# Altium integrated library STMicroelectronics.IntLib: 6 symbols
Pins are listed as number, name and electrical type; pins without a type are passive.

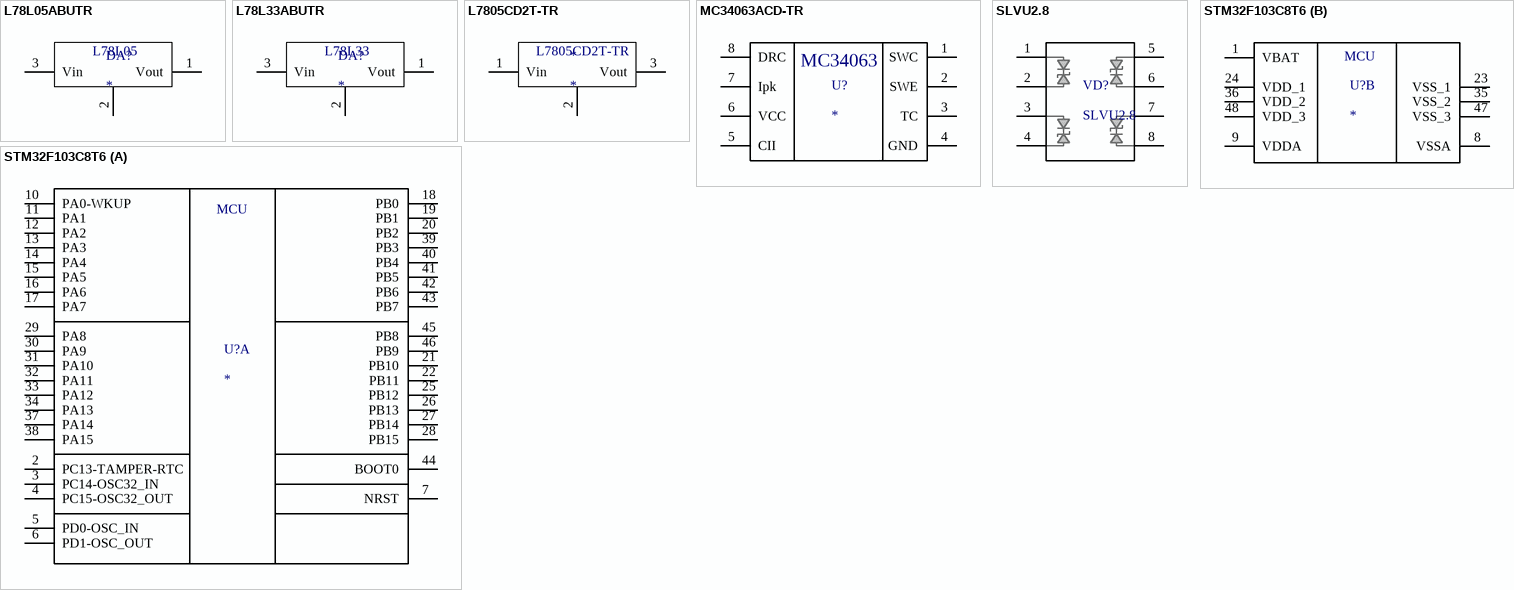
[diagram p0: symbols L78L05ABUTR to STM32F103C8T6]

## L78L05ABUTR
designator DA?
footprint SOT-89
pins: 1 Vout, 2 GND, 3 Vin
text: L78L05

## L78L33ABUTR
designator DA?
footprint SOT-89
pins: 1 Vout, 2 GND, 3 Vin
text: L78L33

## L7805CD2T-TR
designator *
footprint D2-pak
pins: 1 Vin, 2 GND, 3 Vout

## MC34063ACD-TR
designator U?
MC34063ACD-TR
footprint SO-8
footprint DIP-8
pins: 1 SWC, 2 SWE, 3 TC, 4 GND, 5 CII, 6 VCC, 7 Ipk, 8 DRC
text: MC34063

## SLVU2.8
designator VD?
Manufacturer: STMicroelectronics
footprint SO-8
pins: 1, 2, 3, 4, 5, 6, 7, 8

## STM32F103C8T6
designator U?
STM32F103C8T6
footprint LQFP48
part A pins: 2 PC13-TAMPER-RTC "PC13-TAMPER-RTC/PC13/TAMPER-RTC", 3 PC14-OSC32_IN "PC14-OSC32_IN/PC14/OSC32_IN", 4 PC15-OSC32_OUT "PC15-OSC32_OUT/PC15/OSC32_OUT", 5 PD0-OSC_IN "PD0/OSC_IN", 6 PD1-OSC_OUT "PD1/OSC_OUT", 7 NRST, 10 PA0-WKUP "PA0-WKUP/PA0/WKUP/USART2_CTS/ADC12_IN0/TIM2_CH1_ETR", 11 PA1 "PA1/USART2_RTS/ADC12_IN1/TIM2_CH2", 12 PA2 "PA2/USART2_TX/ADC12_IN2/TIM2_CH3", 13 PA3 "PA3/USART2_RX/ADC12_IN3/TIM2_CH4", 14 PA4 "PA4/SPI1_NSS/USART2_CK/ADC12_IN4", 15 PA5 "PA5/SPI1_SCK/ADC12_IN5", 16 PA6 "PA6/SPI1_MISO/ADC12_IN6/TIM3_CH1/TIM1_BKIN", 17 PA7 "PA7/SPI1_MOSI/ADC12_IN7/TIM3_CH2/TIM1_CH1N", 18 PB0 "PB0/ADC12_IN8/TIM3_CH3/TIM1_CH2N", 19 PB1 "PB1/ADC12_IN9/TIM3_CH4/TIM1_CH3N", 20 PB2 "PB2/BOOT1", 21 PB10 "PB10/I2C2_SCL/USART3_TX/TIM2_CH3", 22 PB11 "PB11/I2C2_SDA/USART3_RX/TIM2_CH4", 25 PB12 "PB12/SPI2_NSS/I2C2_SMBAl/USART3_CK/TIM1_BKIN", 26 PB13 "PB13/SPI2_SCK/USART3_CTS/TIM1_CH1N", 27 PB14 "PB14/SPI2_MISO/USART3_RTS/TIM1_CH2N", 28 PB15 "PB15/SPI2_MOSI/TIM1_CH3N", 29 PA8 "PA8/USART1_CK/TIM1_CH1/MCO", 30 PA9 "PA9/USART1_TX/TIM1_CH2", 31 PA10 "PA10/USART1_RX/TIM1_CH3", 32 PA11 "PA11/USART1_CTS/CANRX/USBDM/TIM1_CH4", 33 PA12 "PA12/USART1_RTS/CANTX/USBDP/TIM1_ETR", 34 PA13 "PA13/JTMS/SWDIO", 37 PA14 "PA14/JTCK/SWCLK", 38 PA15 "PA15/JTDI/TIM2_CH1_ETR/SPI1_NSS", 39 PB3 "PB3/JTDO/TIM2_CH2/TRACESWO/SPI1_SCK", 40 PB4 "PB4/NJTRST/TIM3_CH1/SPI1_MISO", 41 PB5 "PB5/I2C1_SMBAI/TIM3_CH2/SPI1_MOSI", 42 PB6 "PB6/I2C1_SCL/TIM4_CH1/USART1_TX", 43 PB7 "PB7/I2C1_SDA/TIM4_CH2/USART1_RX", 44 BOOT0, 45 PB8 "PB8/TIM4_CH3/I2C1_SCL/CANRX", 46 PB9 "PB9/TIM4_CH4/I2C1_SDA/CANTX"
part B pins: 1 VBAT (power), 8 VSSA (power), 9 VDDA (power), 23 VSS_1 (power), 24 VDD_1 (power), 35 VSS_2 (power), 36 VDD_2 (power), 47 VSS_3 (power), 48 VDD_3 (power)
part A text: MCU
part B text: MCU